# Altium footprint library 海关全向控制器主控板电路V2.PcbLib: 35 footprints (part 2 of 3)
Each footprint in its own frame and in the unit in brackets; x right, y up, seen from the top. Pads: shape width x height; smd on the part's side, far side on the other; paste and mask are expansions set on the pad; w line width, h text height; cw(c..) or ccw(c..) is an arc to the next point about the centre after c.
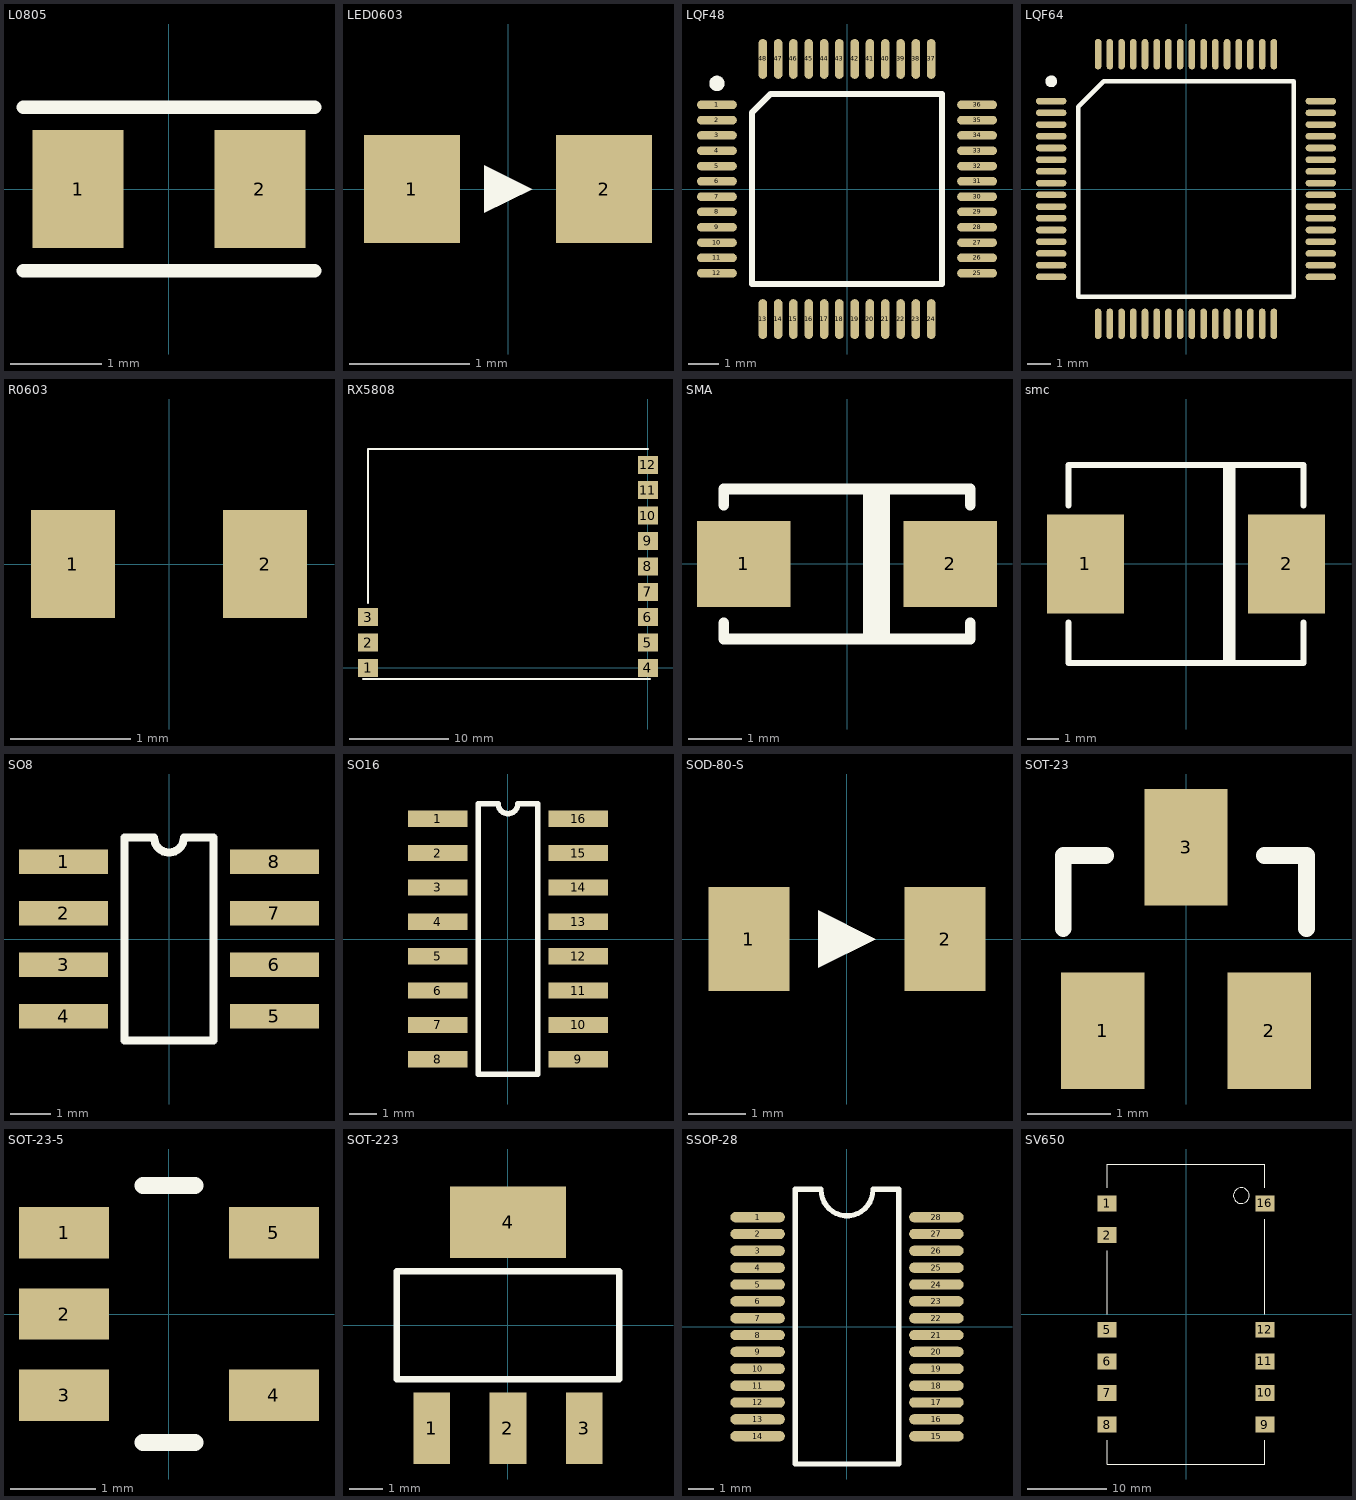
[diagram p1: the footprints below, top view; thin cyan lines are the x and y axes]

## L0805 [mm]
height 0.8
pads (2):
  rect 1x1.3 smd: 1(-1,0) 2(1,0)
Top Overlay:
  lines w0.152: -1.6,-0.9 1.6,-0.9 ; -1.6,0.9 1.6,0.9
3D body: height 0.61, standoff 0, extent -0.95,-0.65 1.082,0.625

## LED0603 [mm]
height 1
pads (2):
  rect 0.8x0.9 smd: 1(-0.8,0) 2(0.8,0)
Top Overlay:
  region: -0.2,0.2 -0.2,-0.2 0.2,0
3D body: height 0.6, standoff 0, extent -0.8,-0.4 0.8,0.4

## LQF48 [mm]
height 1.6
pads (48):
  oval 1.3x0.28 smd: 1(-4.25,2.75) 2(-4.25,2.25) 3(-4.25,1.75) 4(-4.25,1.25) 5(-4.25,0.75) 6(-4.25,0.25) 7(-4.25,-0.25) 8(-4.25,-0.75) 9(-4.25,-1.25) 10(-4.25,-1.75) 11(-4.25,-2.25) 12(-4.25,-2.75) 25(4.25,-2.75) 26(4.25,-2.25) 27(4.25,-1.75) 28(4.25,-1.25) 29(4.25,-0.75) 30(4.25,-0.25) 31(4.25,0.25) 32(4.25,0.75) 33(4.25,1.25) 34(4.25,1.75) 35(4.25,2.25) 36(4.25,2.75)
  oval 0.28x1.3 smd: 13(-2.75,-4.25) 14(-2.25,-4.25) 15(-1.75,-4.25) 16(-1.25,-4.25) 17(-0.75,-4.25) 18(-0.25,-4.25) 19(0.25,-4.25) 20(0.75,-4.25) 21(1.25,-4.25) 22(1.75,-4.25) 23(2.25,-4.25) 24(2.75,-4.25) 37(2.75,4.25) 38(2.25,4.25) 39(1.75,4.25) 40(1.25,4.25) 41(0.75,4.25) 42(0.25,4.25) 43(-0.25,4.25) 44(-0.75,4.25) 45(-1.25,4.25) 46(-1.75,4.25) 47(-2.25,4.25) 48(-2.75,4.25)
Top Overlay:
  circle w0.25: c-4.25,3.45 r0.125
  lines w0.203: -3.1,-3.1 3.1,-3.1 3.1,3.1 -2.5,3.1 -3.1,2.5 -3.1,-3.1
3D body: height 1.8, standoff -0.01, extent -4.495,-4.5 4.505,4.5

## LQF64 [mm]
height 1.6
pads (64):
  oval 1.3x0.28 smd: 1(-5.75,3.75) 2(-5.75,3.25) 3(-5.75,2.75) 4(-5.75,2.25) 5(-5.75,1.75) 6(-5.75,1.25) 7(-5.75,0.75) 8(-5.75,0.25) 9(-5.75,-0.25) 10(-5.75,-0.75) 11(-5.75,-1.25) 12(-5.75,-1.75) 13(-5.75,-2.25) 14(-5.75,-2.75) 15(-5.75,-3.25) 16(-5.75,-3.75) 33(5.75,-3.75) 34(5.75,-3.25) 35(5.75,-2.75) 36(5.75,-2.25) 37(5.75,-1.75) 38(5.75,-1.25) 39(5.75,-0.75) 40(5.75,-0.25) 41(5.75,0.25) 42(5.75,0.75) 43(5.75,1.25) 44(5.75,1.75) 45(5.75,2.25) 46(5.75,2.75) 47(5.75,3.25) 48(5.75,3.75)
  oval 0.28x1.3 smd: 17(-3.75,-5.75) 18(-3.25,-5.75) 19(-2.75,-5.75) 20(-2.25,-5.75) 21(-1.75,-5.75) 22(-1.25,-5.75) 23(-0.75,-5.75) 24(-0.25,-5.75) 25(0.25,-5.75) 26(0.75,-5.75) 27(1.25,-5.75) 28(1.75,-5.75) 29(2.25,-5.75) 30(2.75,-5.75) 31(3.25,-5.75) 32(3.75,-5.75) 49(3.75,5.75) 50(3.25,5.75) 51(2.75,5.75) 52(2.25,5.75) 53(1.75,5.75) 54(1.25,5.75) 55(0.75,5.75) 56(0.25,5.75) 57(-0.25,5.75) 58(-0.75,5.75) 59(-1.25,5.75) 60(-1.75,5.75) 61(-2.25,5.75) 62(-2.75,5.75) 63(-3.25,5.75) 64(-3.75,5.75)
Top Overlay:
  circle w0.25: c-5.75,4.593 r0.125
  lines w0.203: -4.6,-4.6 4.6,-4.6 4.6,4.6 -3.5,4.6 -4.6,3.5 -4.6,-4.6
3D body: height 1.49, standoff -0.01, extent -6.02,-6.02 6.02,6.02

## R0603 [mm]
height 0.4
pads (2):
  rect 0.7x0.9 smd: 1(-0.8,0) 2(0.8,0)
3D body: height 0.37, standoff 0, extent -0.8,-0.401 0.8,0.401

## RX5808 [mm]
height 3
pads (12):
  rect 2x1.8 smd: 1(-28,0) 2(-28,2.54) 3(-28,5.08) 4(0,0) 5(0,2.54) 6(0,5.08) 7(0,7.62) 8(0,10.16) 9(0,12.7) 10(0,15.24) 11(0,17.78) 12(0,20.32)
Top Overlay:
  lines w0.152: -28.5,-1.1 0.2,-1.1 ; -28,6.5 -28,21.9 0,21.9

## SMA [mm]
height 2.2
pads (2):
  rect 1.75x1.6 smd: 1(-1.925,0) 2(1.925,0)
Top Overlay:
  rectangle: 0.3,-1.5 0.806,1.5
  lines w0.203: -2.3,-1.1 -2.3,-1.4 2.3,-1.4 2.3,-1.1 ; -2.3,1.1 -2.3,1.4 2.3,1.4 2.3,1.1
3D body: height 2.15, standoff 0, extent -2.6,-1.325 2.6,1.325

## smc [mm]
height 2.3
pads (2):
  rect 2.5x3.2 smd: 1(-3.25,0) 2(3.25,0)
Top Overlay:
  rectangle: 1.198,-3.203 1.604,3.197
  lines w0.203: -3.8,-1.89 -3.8,-3.2 3.8,-3.2 3.8,-1.9 ; -3.8,1.9 -3.8,3.2 3.8,3.2 3.8,1.9
3D body: height 2.8, standoff 0, extent -3.799,-3.1 3.799,3.12

## SO8 [mm]
height 1.55
pads (8):
  rect 2.2x0.6 smd: 1(-2.6,1.905) 2(-2.6,0.635) 3(-2.6,-0.635) 4(-2.6,-1.905) 5(2.6,-1.905) 6(2.6,-0.635) 7(2.6,0.635) 8(2.6,1.905)
Top Overlay:
  lines w0.2: -1.1,-2.5 1.1,-2.5 1.1,2.5 0.367,2.5 cw(c0,2.5) -0.367,2.5 -1.1,2.5 -1.1,-2.5
3D body: height 1.4, standoff -0.05, extent -2.972,-2.464 2.972,2.438

## SO16 [mm]
height 1.86
pads (16):
  rect 2.2x0.6 smd: 1(-2.6,4.445) 2(-2.6,3.175) 3(-2.6,1.905) 4(-2.6,0.635) 5(-2.6,-0.635) 6(-2.6,-1.905) 7(-2.6,-3.175) 8(-2.6,-4.445) 9(2.6,-4.445) 10(2.6,-3.175) 11(2.6,-1.905) 12(2.6,-0.635) 13(2.6,0.635) 14(2.6,1.905) 15(2.6,3.175) 16(2.6,4.445)
Top Overlay:
  lines w0.2: -1.1,-5 -1.1,5 -0.367,5 ccw(c0,5) 0.367,5 1.1,5 1.1,-5 -1.1,-5
3D body: height 1.35, standoff -0.1, extent -2.921,-5.022 3.023,4.953

## SOD-80-S [mm]
pads (2):
  rect 1.4x1.8 smd: 1(-1.7,0) 2(1.7,0)
Top Overlay:
  region: -0.5,0.5 -0.5,-0.5 0.5,0
3D body: height 1.6, standoff 0, extent -1.85,-0.787 1.85,0.813

## SOT-23 [mm]
pads (3):
  rect 1x1.4 smd: 1(-1,-1.1) 2(1,-1.1) 3(0,1.1)
Top Overlay:
  lines w0.203: -1.473,0.127 -1.473,1 -0.965,1 ; 0.94,1 1.448,1 1.448,0.127
3D body: height 1.3, standoff 0, extent -1.45,-1.4 1.45,1.4

## SOT-23-5 [mm]
pads (5):
  rect 1.05x0.6 smd: 1(-1.225,0.95) 2(-1.225,0) 3(-1.225,-0.95) 4(1.225,-0.95) 5(1.225,0.95)
Top Overlay:
  lines w0.2: -0.3,-1.5 0.3,-1.5 ; -0.3,1.5 0.3,1.5
3D body: height 1.2, standoff -0.02, extent -1.5,-1.5 1.5,1.5

## SOT-223 [mm]
height 1.8
pads (4):
  rect 1.1x2.15 smd: 1(-2.3,-3.1) 2(0,-3.1) 3(2.3,-3.1)
  rect 3.5x2.15 smd: 4(0,3.1)
Top Overlay:
  lines w0.2: -3.35,-1.625 -3.35,1.625 3.35,1.625 3.35,-1.625 -3.35,-1.625
3D body: height 1.8, standoff 0, extent -3.15,-3.3 3.15,3.3

## SSOP-28 [mm]
pads (28):
  oval 2.1x0.4 smd: 1(-3.45,4.225) 2(-3.45,3.575) 3(-3.45,2.925) 4(-3.45,2.275) 5(-3.45,1.625) 6(-3.45,0.975) 7(-3.45,0.325) 8(-3.45,-0.325) 9(-3.45,-0.975) 10(-3.45,-1.625) 11(-3.45,-2.275) 12(-3.45,-2.925) 13(-3.45,-3.575) 14(-3.45,-4.225) 15(3.45,-4.225) 16(3.45,-3.575) 17(3.45,-2.925) 18(3.45,-2.275) 19(3.45,-1.625) 20(3.45,-0.975) 21(3.45,-0.325) 22(3.45,0.325) 23(3.45,0.975) 24(3.45,1.625) 25(3.45,2.275) 26(3.45,2.925) 27(3.45,3.575) 28(3.45,4.225)
Top Overlay:
  lines w0.2: -1,5.275 ccw(c0,5.275) 1,5.275 ; -1,5.3 -2,5.3 -2,-5.3 2,-5.3 2,5.3 1,5.3
3D body: height 2.15, standoff 0, extent -3.878,-5.165 3.878,5.165

## SV650 [mm]
height 4
pads (11):
  rect 2.4x2 smd: 1(-10,14) 2(-10,10) 5(-10,-2) 6(-10,-6) 7(-10,-10) 8(-10,-14) 9(10,-14) 10(10,-10) 11(10,-6) 12(10,-2) 16(10,14)
Top Overlay:
  circle w0.152: c7,15 r1
  lines w0.152: -10,-16 -10,-19 10,-19 10,-16 ; -10,0 -10,8 ; -10,16 -10,19 10,19 10,16 ; 10,0 10,12